# Altium footprint library TransientBLE.PcbLib: 43 footprints (part 2 of 3)
Each footprint in its own frame and in the unit in brackets; x right, y up, seen from the top. Pads: shape width x height; smd on the part's side, far side on the other; paste and mask are expansions set on the pad; w line width, h text height; cw(c..) or ccw(c..) is an arc to the next point about the centre after c.
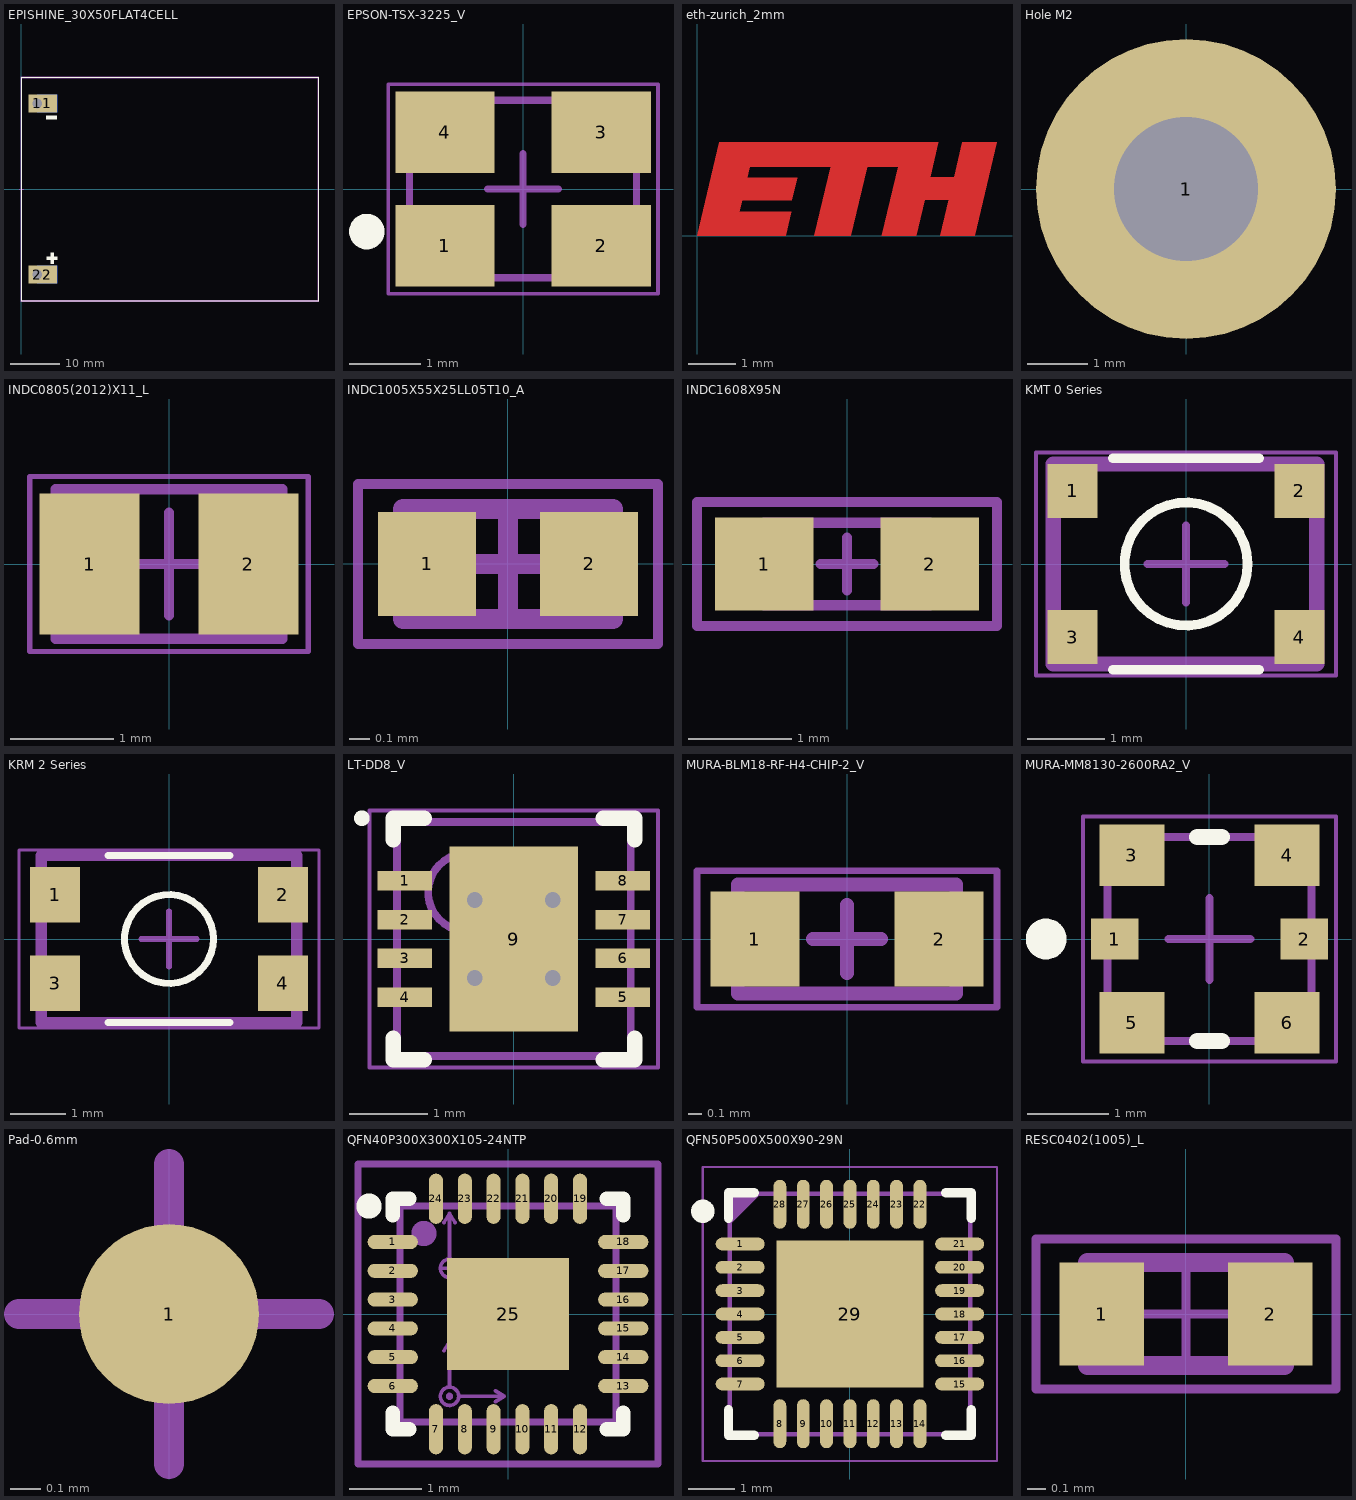
[diagram p1: the footprints below, top view; thin cyan lines are the x and y axes]

## EPISHINE_30X50FLAT4CELL [mm]
pads (6):
  rect 3.6x3.6 hole 2: 1(3.2,17.3) 2(3.2,-17.3)
  rect 4x3.6 smd: 1(5.2,17.3) 2(5.2,-17.3)
  rect 4x3.6 smd far side: 1(5.2,17.3) 2(5.2,-17.3)
Top Overlay:
  region: 6.575,-15.15 6.575,-12.875 5.825,-12.875 5.825,-15.15
  rectangle: 5.05,-14.375 7.325,-13.625
  rectangle: 4.95,14.075 7.225,14.825
  lines w0.2: -0.05,-22.55 -0.05,22.55 60.05,22.55 60.05,-22.55 -0.05,-22.55
Mechanical 13:
  lines w0.1: 0,-22.5 60,-22.5 60,22.5 0,22.5 0,-22.5
Mechanical 15:
  lines w0.05: -0.15,-22.65 60.15,-22.65 60.15,22.65 -0.15,22.65 -0.15,-22.65
  lines w0.1: -0.5,0 0.5,0 ; 0,-0.5 0,0.5
3D body "LEH3_30x50_6_00_D.STEP": height 0.35, standoff 0, extent 0,-22.5 60,22.5

## EPSON-TSX-3225_V [mm] "SMD, 4-Leads, Body 3.2x2.5mm"
height 0.6
pads (4):
  rect 1.4x1.15 smd: 1(-1.1,-0.8) 2(1.1,-0.8) 3(1.1,0.8) 4(-1.1,0.8)
Top Overlay:
  circle w0.25: c-2.2,-0.6 r0.125
Mechanical 13:
  lines w0.1: -1.6,-1.25 1.6,-1.25 1.6,1.25 -1.6,1.25 -1.6,-1.25
Mechanical 15:
  lines w0.05: -1.9,-1.475 -1.9,1.475 1.9,1.475 1.9,-1.475 -1.9,-1.475
  lines w0.1: -0.5,0 0.5,0 ; 0,-0.5 0,0.5
3D body: height 0.6, standoff 0, extent -1.6,-1.25 1.6,1.25

## eth-zurich_2mm [mm] "Logo ETH Zurich"
height 3
Top Layer:
  region: 5.93,0 6.4,2 5.662,2 5.485,1.247 4.973,1.247 5.149,2 0.47,2 0,0 0.781,0 1.892,0 2.014,0.52 0.904,0.52 0.961,0.764 2.023,0.764 2.136,1.244 1.073,1.244 1.129,1.48 2.849,1.48 2.5,0 3.282,0 3.63,1.48 4.289,1.48 3.942,0 4.68,0 4.86,0.767 5.372,0.767 5.192,0
Top Solder:
  region: 5.93,0 6.4,2 5.662,2 5.485,1.247 4.973,1.247 5.149,2 0.47,2 0,0 0.781,0 1.892,0 2.014,0.52 0.904,0.52 0.961,0.764 2.023,0.764 2.136,1.244 1.073,1.244 1.129,1.48 2.849,1.48 2.5,0 3.282,0 3.63,1.48 4.289,1.48 3.942,0 4.68,0 4.86,0.767 5.372,0.767 5.192,0

## Hole M2 [mm] "Plated Thru-Hole, M2 (2.4mm hole, 5mm pad)"
height 3
pads (1):
  round 5 / inner round 3 / far side round 5 hole 2.4: 1(0,0)
Top Solder:
  circle w1.9: c0,0 r0.95
Bottom Solder:
  circle w1.9: c0,0 r0.95

## INDC0805(2012)X11_L [mm] "Chip Inductor, 2-Leads, Body 2.00x1.25mm, IPC High Density"
height 1.1
pads (2):
  rect 0.97x1.37 smd: 1(-0.77,0) 2(0.77,0)
Mechanical 12:
  lines w0.1: -1.1,-0.725 -1.1,0.725 1.1,0.725 1.1,-0.725 -1.1,-0.725
Mechanical 15:
  lines w0.05: -1.35,-0.85 -1.35,0.85 1.35,0.85 1.35,-0.85 -1.35,-0.85
  lines w0.1: -0.5,0 0.5,0 ; 0,-0.5 0,0.5
3D body "INDC2012X11L.step": height 1.1, standoff 0, extent -1.1,-0.725 1.1,0.725

## INDC1005X55X25LL05T10_A [mm] "Chip Inductor, 2-Leads, Body 1.05x0.55mm, IPC High Density"
height 0.55
pads (2):
  rect 0.49x0.52 smd: 1(-0.405,0) 2(0.405,0)
Mechanical 13:
  lines w0.1: -0.525,-0.275 0.525,-0.275 0.525,0.275 -0.525,0.275 -0.525,-0.275
Mechanical 15:
  lines w0.05: -0.75,-0.4 0.75,-0.4 0.75,0.4 -0.75,0.4 -0.75,-0.4
  lines w0.1: -0.275,0 0.275,0 ; 0,-0.275 0,0.275
3D body "INDC1005X06L.step": height 0.55, standoff 0, extent -0.525,-0.275 0.525,0.275

## INDC1608X95N [mm]
pads (2):
  rect 0.95x0.9 smd: 1(-0.8,0) 2(0.8,0)
Mechanical 1:
  lines w0.102: -0.8,-0.4 -0.8,0.4 0.8,0.4 0.8,-0.4 -0.8,-0.4
  text ".Designator" at -0.45,-0.155 h0.6
Mechanical 15:
  lines w0.1: -0.254,0 0.254,0 ; 0,-0.254 0,0.254 ; -1.45,-0.6 -1.45,0.6 1.45,0.6 1.45,-0.6 -1.45,-0.6
3D body "INDC1608X95N.step": height 0.94, standoff -0.01, extent -0.8,-0.4 0.8,0.4

## KMT 0 Series [mm] "Tactile Switch SPST-NO Top Actuated Surface Mount"
height 0.65
pads (4):
  rect 0.65x0.7 smd: 1(-1.475,0.95) 2(1.475,0.95) 3(-1.475,-0.95) 4(1.475,-0.95)
Top Overlay:
  circle w0.127: c0,0 r0.8
  lines w0.127: -0.95,-1.375 0.95,-1.375 ; -0.95,1.375 0.95,1.375
Mechanical 12:
  lines w0.2: -1.725,-1.3 1.7,-1.3 1.7,1.3 -1.725,1.3 -1.725,-1.3
Mechanical 15:
  lines w0.05: -1.95,-1.45 1.95,-1.45 1.95,1.45 -1.95,1.45 -1.95,-1.45
  lines w0.1: -0.5,0 0.5,0 ; 0,-0.5 0,0.5
3D body "KMT022NGJLHS.stp": height 0.7, standoff 0, extent -1.698,-1.3 1.698,1.3

## KRM 2 Series [mm] "Tactile Switch SPST-NO Top Actuated Surface Mount"
height 1.9
pads (4):
  rect 0.9x1 smd: 1(-2.05,0.8) 2(2.05,0.8) 3(-2.05,-0.8) 4(2.05,-0.8)
Top Overlay:
  circle w0.127: c0,0 r0.8
  lines w0.127: -1.1,-1.5 1.1,-1.5 ; -1.1,1.5 1.1,1.5
Mechanical 12:
  lines w0.2: -2.3,-1.5 -2.3,1.5 2.3,1.5 2.3,-1.5 -2.3,-1.5
Mechanical 15:
  lines w0.05: -2.7,-1.6 -2.7,1.6 2.7,1.6 2.7,-1.6 -2.7,-1.6
  lines w0.1: -0.5,0 0.5,0 ; 0,-0.5 0,0.5
3D body "User Library-Switch-CK-KMR2.STEP": height 2.11, standoff 0.01, extent -2.3,-1.5 2.3,1.5

## LT-DD8_V [mm] "SON, 8-Leads, Body 3x3mm, Pitch 0.5mm, Thermal Pad 2.38x1.65mm"
height 0.8
pads (9):
  rect 0.7x0.25 smd mask+0.05: 1(-1.4,0.75) 2(-1.4,0.25) 3(-1.4,-0.25) 4(-1.4,-0.75) 5(1.4,-0.75) 6(1.4,-0.25) 7(1.4,0.25) 8(1.4,0.75)
  rect 1.65x2.38 smd mask+0.05: 9(0,0)
via -0.5,0.5 diameter 0.55 hole 0.2
via 0.5,0.5 diameter 0.55 hole 0.2
via -0.5,-0.5 diameter 0.55 hole 0.2
via 0.5,-0.5 diameter 0.55 hole 0.2
Top Overlay:
  circle w0.1: c-1.95,1.55 r0.05
  lines w0.2: -1.55,-1.275 -1.55,-1.55 -1.15,-1.55 ; -1.55,1.275 -1.55,1.55 -1.15,1.55 ; 1.15,-1.55 1.55,-1.55 1.55,-1.275 ; 1.15,1.55 1.55,1.55 1.55,1.275
Mechanical 13:
  circle w0.1: c-0.6,0.6 r0.5
  lines w0.1: -1.5,-1.5 -1.5,1.5 1.5,1.5 1.5,-1.5 -1.5,-1.5
Mechanical 15:
  lines w0.05: -1.85,-1.65 -1.85,1.65 1.85,1.65 1.85,-1.65 -1.85,-1.65
  lines w0.1: -0.5,0 0.5,0 ; 0,-0.5 0,0.5
3D body: height 0.8, standoff 0, extent -1.5,-1.5 1.5,1.5

## MURA-BLM18-RF-H4-CHIP-2_V [mm] "Chip Ferrite Bead, 2-Leads, Body 1.6x0.8mm, Height 0.95mm, Reflow"
height 0.95
pads (2):
  rect 0.65x0.7 smd: 1(-0.675,0) 2(0.675,0)
Mechanical 6:
  text "Land Pattern Adapted for Reflow Soldering" at -1,0.6 h0.05
Mechanical 13:
  lines w0.1: -0.8,-0.4 -0.8,0.4 0.8,0.4 0.8,-0.4 -0.8,-0.4
Mechanical 15:
  lines w0.05: -1.1,-0.5 1.1,-0.5 1.1,0.5 -1.1,0.5 -1.1,-0.5
  lines w0.1: -0.25,0 0.25,0 ; 0,-0.25 0,0.25
3D body: height 0.95, standoff 0, extent -0.8,-0.4 0.8,0.4

## MURA-MM8130-2600RA2_V [mm] "SMD, 6-Leads, Body 2.5x2.5mm"
height 1.5
pads (6):
  rect 0.58x0.5 smd: 1(-1.16,0) 2(1.16,0)
  rect 0.8x0.75 smd: 3(-0.95,1.025) 4(0.95,1.025) 5(-0.95,-1.025) 6(0.95,-1.025)
Top Overlay:
  circle w0.25: c-2,0 r0.125
  lines w0.2: -0.15,-1.25 0.15,-1.25 ; -0.15,1.25 0.15,1.25
Mechanical 13:
  lines w0.1: -1.25,-1.25 1.25,-1.25 1.25,1.25 -1.25,1.25 -1.25,-1.25
Mechanical 15:
  lines w0.05: -1.55,-1.5 -1.55,1.5 1.55,1.5 1.55,-1.5 -1.55,-1.5
  lines w0.1: -0.5,0 0.5,0 ; 0,-0.5 0,0.5
3D body: height 1.5, standoff 0, extent -1.25,-1.25 1.25,1.25

## Pad-0.6mm [mm] "SMT Test Pad"
height 3
pads (1):
  round 0.6 smd paste-5: 1(0,0)
Mechanical 15:
  lines w0.1: -0.5,0 0.5,0 ; 0,-0.5 0,0.5

## QFN40P300X300X105-24NTP [mm]
height 1.05
pads (25):
  oval 0.7x0.195 smd: 1(-1.6,1) 2(-1.6,0.6) 3(-1.6,0.2) 4(-1.6,-0.2) 5(-1.6,-0.6) 6(-1.6,-1) 13(1.6,-1) 14(1.6,-0.6) 15(1.6,-0.2) 16(1.6,0.2) 17(1.6,0.6) 18(1.6,1)
  oval 0.195x0.7 smd: 7(-1,-1.6) 8(-0.6,-1.6) 9(-0.2,-1.6) 10(0.2,-1.6) 11(0.6,-1.6) 12(1,-1.6) 19(1,1.6) 20(0.6,1.6) 21(0.2,1.6) 22(-0.2,1.6) 23(-0.6,1.6) 24(-1,1.6)
  rect 1.7x1.55 smd: 25(0,0)
Top Overlay:
  circle w0.3: c-1.93,1.499 r0.025
  lines w0.203: -1.6,-1.375 -1.6,-1.6 -1.375,-1.6 ; -1.6,1.375 -1.6,1.6 -1.375,1.6 ; 1.375,-1.6 1.6,-1.6 1.6,-1.375 ; 1.375,1.6 1.6,1.6 1.6,1.375
Mechanical 1:
  circle w0.3: c-1.168,1.118 r0.025
  circle w0.051: c-0.813,-1.143 r0.025
  circle w0.051: c-0.813,-1.143 r0.127
  circle w0.051: c-0.813,0.635 r0.127
  lines w0.051: -0.94,0.635 -0.051,0.635 ; -0.889,-0.508 -0.813,-0.381 ; -0.889,1.27 -0.813,1.397 ; -0.813,-1.016 -0.813,-0.381 ; -0.813,0.508 -0.813,1.397 ; -0.737,-0.508 -0.813,-0.381 ; -0.737,1.27 -0.813,1.397 ; -0.686,-1.143 -0.051,-1.143 ; -0.178,-1.219 -0.051,-1.143 ; -0.178,-1.067 -0.051,-1.143 ; -0.178,0.559 -0.051,0.635 ; -0.178,0.711 -0.051,0.635
  lines w0.102: -1.5,-1.5 -1.5,1.5 1.5,1.5 1.5,-1.5 -1.5,-1.5
  text ".Designator" at -0.508,-0.127 h0.51
  text "z" at -0.991,-1.245 h0.13
  text "y" at -0.686,-0.483 h0.13
  text "x" at -0.127,-1.346 h0.13
  text "x" at -0.127,0.432 h0.13
  text "y" at -0.686,1.295 h0.13
  text "z" at -0.991,0.533 h0.13
  text "accel/gyro" at -0.584,-0.889 h0.13
  text "magn" at -0.559,0.889 h0.13
Mechanical 15:
  lines w0.1: -0.254,0 0.254,0 ; 0,-0.254 0,0.254 ; -2.083,-2.083 2.083,-2.083 2.083,2.083 -2.083,2.083 -2.083,-2.083
3D body: height 1.05, standoff 0, extent -1.5,-1.5 1.5,1.5

## QFN50P500X500X90-29N [mm]
pads (29):
  oval 1.05x0.275 smd: 1(-2.35,1.5) 2(-2.35,1) 3(-2.35,0.5) 4(-2.35,0) 5(-2.35,-0.5) 6(-2.35,-1) 7(-2.35,-1.5) 15(2.35,-1.5) 16(2.35,-1) 17(2.35,-0.5) 18(2.35,0) 19(2.35,0.5) 20(2.35,1) 21(2.35,1.5)
  oval 0.275x1.05 smd: 8(-1.5,-2.35) 9(-1,-2.35) 10(-0.5,-2.35) 11(0,-2.35) 12(0.5,-2.35) 13(1,-2.35) 14(1.5,-2.35) 22(1.5,2.35) 23(1,2.35) 24(0.5,2.35) 25(0,2.35) 26(-0.5,2.35) 27(-1,2.35) 28(-1.5,2.35)
  rect 3.15x3.15 smd: 29(0,0)
Top Overlay:
  circle w0.25: c-3.15,2.2 r0.125
  lines w0.2: -2.6,-2.05 -2.6,-2.6 -2.05,-2.6 ; -2.6,2.05 -2.6,2.6 -2.05,2.6 ; 2.05,-2.6 2.6,-2.6 2.6,-2.05 ; 2.05,2.6 2.6,2.6 2.6,2.05
Top Paste:
  region: -0.9,0.9 0.9,0.9 0.9,-0.9 -0.9,-0.9
Mechanical 1:
  lines w0.1: -2.575,1.975 -1.975,2.575 ; -2.575,2.075 -2.075,2.575 ; -2.575,2.175 -2.175,2.575 ; -2.575,2.275 -2.275,2.575 ; -2.575,2.375 -2.375,2.575 ; -2.575,2.475 -2.475,2.575 ; -2.575,-2.575 2.575,-2.575 2.575,2.575 -2.575,2.575 -2.575,-2.575
  text ".Designator" at -0.993,-0.45 h0.75
Mechanical 15:
  lines w0.05: -0.5,0 0.5,0 ; 0,-0.5 0,0.5 ; -3.15,-3.15 3.15,-3.15 3.15,3.15 -3.15,3.15 -3.15,-3.15
3D body: height 0.89, standoff 0, extent -2.575,-2.575 2.575,2.575

## RESC0402(1005)_L [mm] "Chip Resistor, Body 1.0x0.5mm, IPC High Density"
height 0.4
pads (2):
  rect 0.45x0.55 smd: 1(-0.45,0) 2(0.45,0)
Mechanical 13:
  lines w0.1: -0.525,-0.275 -0.525,0.275 0.525,0.275 0.525,-0.275 -0.525,-0.275
Mechanical 15:
  lines w0.05: -0.275,0 0.275,0 ; 0,-0.275 0,0.275 ; -0.8,-0.4 -0.8,0.4 0.8,0.4 0.8,-0.4 -0.8,-0.4
3D body: height 0.4, standoff 0, extent -0.525,-0.275 -0.3,0.275
3D body: height 0.4, standoff 0, extent -0.3,-0.275 0.3,0.275
3D body: height 0.4, standoff 0, extent 0.3,-0.275 0.525,0.275